# EAGLE library part 1658_BNO055 (library dawa_v5.5)
BN055 Intelligent 9-axis absolute orientation sensor
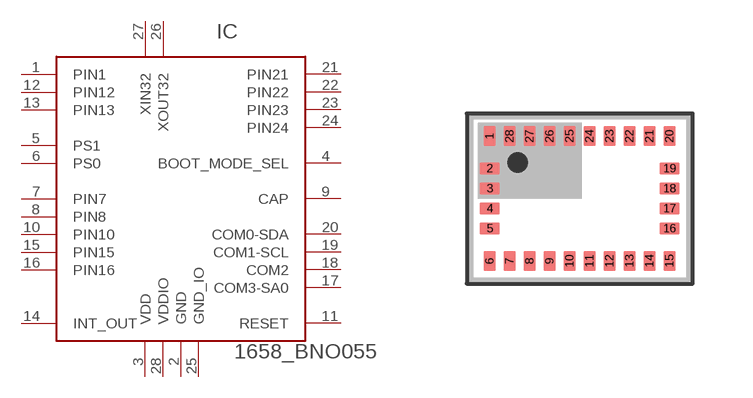
[diagram p1: symbol with the pads of LGA-28_3.80X5.20/0.5; footprint LGA-28_3.80X5.20/0.5]

Designator prefix IC

## 1658_BNO055 (PART_NUMBER: BNO055; VALUE: BN055)  [LGA-28_3.80X5.20/0.5]
1  PIN1  nc
2  GND  pwr
3  VDD  pwr
4  BOOT_MODE_SEL  in
5  PS1  in
6  PS0  in
7  PIN7  hiz
8  PIN8  hiz
9  CAP  hiz
10  PIN10  pas
11  RESET  in
12  PIN12  pas
13  PIN13  pas
14  INT_OUT  out
15  PIN15  pas
16  PIN16  pas
17  COM3-SA0
18  COM2
19  COM1-SCL
20  COM0-SDA
21  PIN21  pas
22  PIN22  pas
23  PIN23  pas
24  PIN24  pas
25  GND_IO  pwr
26  XOUT32  out
27  XIN32
28  VDDIO  pwr

## Footprint LGA-28_3.80X5.20/0.5 (pad centres in mm)
smd 0.3 x 0.5: 1 -2.25,1.56; 6 -2.25,-1.56; 7 -1.75,-1.56; 8 -1.25,-1.56; 9 -0.75,-1.56; 10 -0.25,-1.56; 11 0.25,-1.56; 12 0.75,-1.56; 13 1.25,-1.56; 14 1.75,-1.56; 15 2.25,-1.56; 20 2.25,1.56; 21 1.75,1.56; 22 1.25,1.56; 23 0.75,1.56; 24 0.25,1.56; 25 -0.25,1.56; 26 -0.75,1.56; 27 -1.25,1.56; 28 -1.75,1.56
smd 0.5 x 0.3: 2 -2.25,0.75; 3 -2.25,0.25; 4 -2.25,-0.25; 5 -2.25,-0.75; 16 2.25,-0.75; 17 2.25,-0.25; 18 2.25,0.25; 19 2.25,0.75